# EAGLE library part CARAMBOLA-2 (library BaseApp)
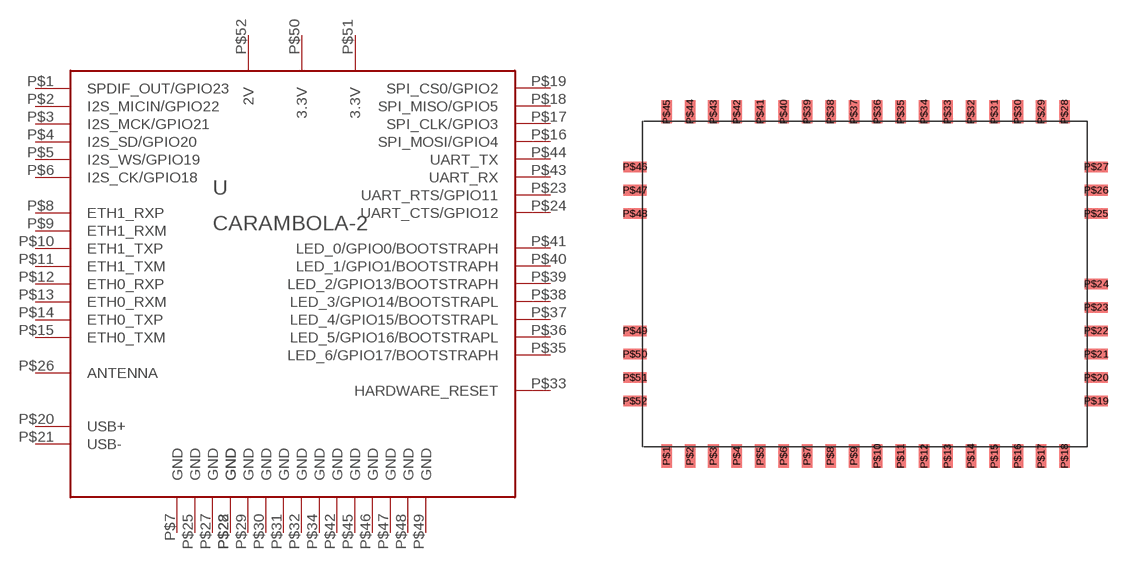
[diagram p55: symbol with the pads of CARAMBOLA-2; footprint CARAMBOLA-2]

Designator prefix -

## CARAMBOLA-2  [CARAMBOLA-2]
P$1  SPDIF_OUT/GPIO23
P$2  I2S_MICIN/GPIO22
P$3  I2S_MCK/GPIO21
P$4  I2S_SD/GPIO20
P$5  I2S_WS/GPIO19
P$6  I2S_CK/GPIO18
P$7  GND
P$8  ETH1_RXP
P$9  ETH1_RXM
P$10  ETH1_TXP
P$11  ETH1_TXM
P$12  ETH0_RXP
P$13  ETH0_RXM
P$14  ETH0_TXP
P$15  ETH0_TXM
P$16  SPI_MOSI/GPIO4
P$17  SPI_CLK/GPIO3
P$18  SPI_MISO/GPIO5
P$19  SPI_CS0/GPIO2
P$20  USB+
P$21  USB-
P$22  GND
P$23  UART_RTS/GPIO11
P$24  UART_CTS/GPIO12
P$25  GND
P$26  ANTENNA
P$27  GND
P$28  GND
P$29  GND
P$30  GND
P$31  GND
P$32  GND
P$33  HARDWARE_RESET
P$34  GND
P$35  LED_6/GPIO17/BOOTSTRAPH
P$36  LED_5/GPIO16/BOOTSTRAPL
P$37  LED_4/GPIO15/BOOTSTRAPL
P$38  LED_3/GPIO14/BOOTSTRAPL
P$39  LED_2/GPIO13/BOOTSTRAPH
P$40  LED_1/GPIO1/BOOTSTRAPH
P$41  LED_0/GPIO0/BOOTSTRAPH
P$42  GND
P$43  UART_RX
P$44  UART_TX
P$45  GND
P$46  GND
P$47  GND
P$48  GND
P$49  GND
P$50  3.3V
P$51  3.3V
P$52  2V

## Footprint CARAMBOLA-2 (pad centres in mm)
smd 0.9 x 2: P$1 -17,-14.7; P$2 -15,-14.7; P$3 -13,-14.7; P$4 -11,-14.7; P$5 -9,-14.7; P$6 -7,-14.7; P$7 -5,-14.7; P$8 -3,-14.7; P$9 -1,-14.7; P$10 1,-14.7; P$11 3,-14.7; P$12 5,-14.7; P$13 7,-14.7; P$14 9,-14.7; P$15 11,-14.7; P$16 13,-14.7; P$17 15,-14.7; P$18 17,-14.7; P$28 17,14.7; P$29 15,14.7; P$30 13,14.7; P$31 11,14.7; P$32 9,14.7; P$33 7,14.7; P$34 5,14.7; P$35 3,14.7; P$36 1,14.7; P$37 -1,14.7; P$38 -3,14.7; P$39 -5,14.7; P$40 -7,14.7; P$41 -9,14.7; P$42 -11,14.7; P$43 -13,14.7; P$44 -15,14.7; P$45 -17,14.7
smd 2 x 0.9: P$19 19.7,-10; P$20 19.7,-8; P$21 19.7,-6; P$22 19.7,-4; P$23 19.7,-2; P$24 19.7,0; P$25 19.7,6; P$26 19.7,8; P$27 19.7,10; P$46 -19.7,10; P$47 -19.7,8; P$48 -19.7,6; P$49 -19.7,-4; P$50 -19.7,-6; P$51 -19.7,-8; P$52 -19.7,-10